# EAGLE library part MAX4674ESE+ (library MyLib)
3V/5V, 4Ω, Wideband Quad 2:1 Analog Multiplexer
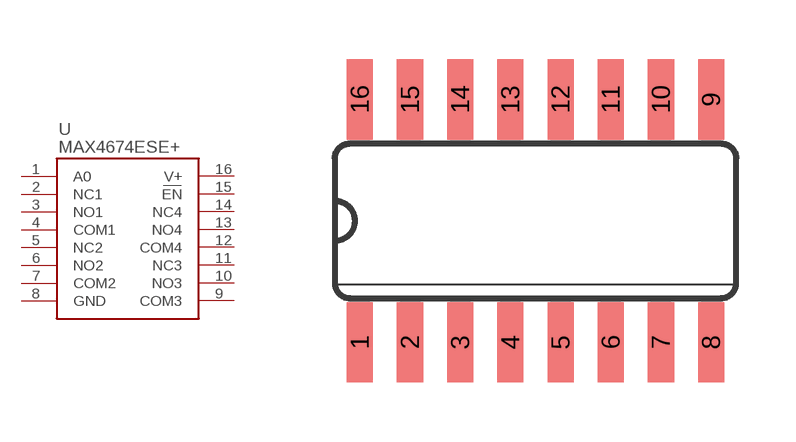
[diagram p0: symbol with the pads of SO16; footprint SO16]

Designator prefix -

## MAX4674ESE+  [SO16]
1  A0
2  NC1
3  NO1
4  COM1
5  NC2
6  NO2
7  COM2
8  GND
9  COM3
10  NO3
11  NC3
12  COM4
13  NO4
14  NC4
15  EN
16  V+

## Footprint SO16 (pad centres in mm)
Small Outline Package .150 SIOC Source: http://www.maxim-ic.com/package_drawings/21-0041B.pdf
smd 0.66 x 2.032: 1 -4.445,-3.073; 2 -3.175,-3.073; 3 -1.905,-3.073; 4 -0.635,-3.073; 5 0.635,-3.073; 6 1.905,-3.073; 7 3.175,-3.073; 8 4.445,-3.073; 9 4.445,3.073; 10 3.175,3.073; 11 1.905,3.073; 12 0.635,3.073; 13 -0.635,3.073; 14 -1.905,3.073; 15 -3.175,3.073; 16 -4.445,3.073